# Altium schematic symbol library Schlib1.SchLib: 5 symbols
Pins are listed as number, name and electrical type; pins without a type are passive.

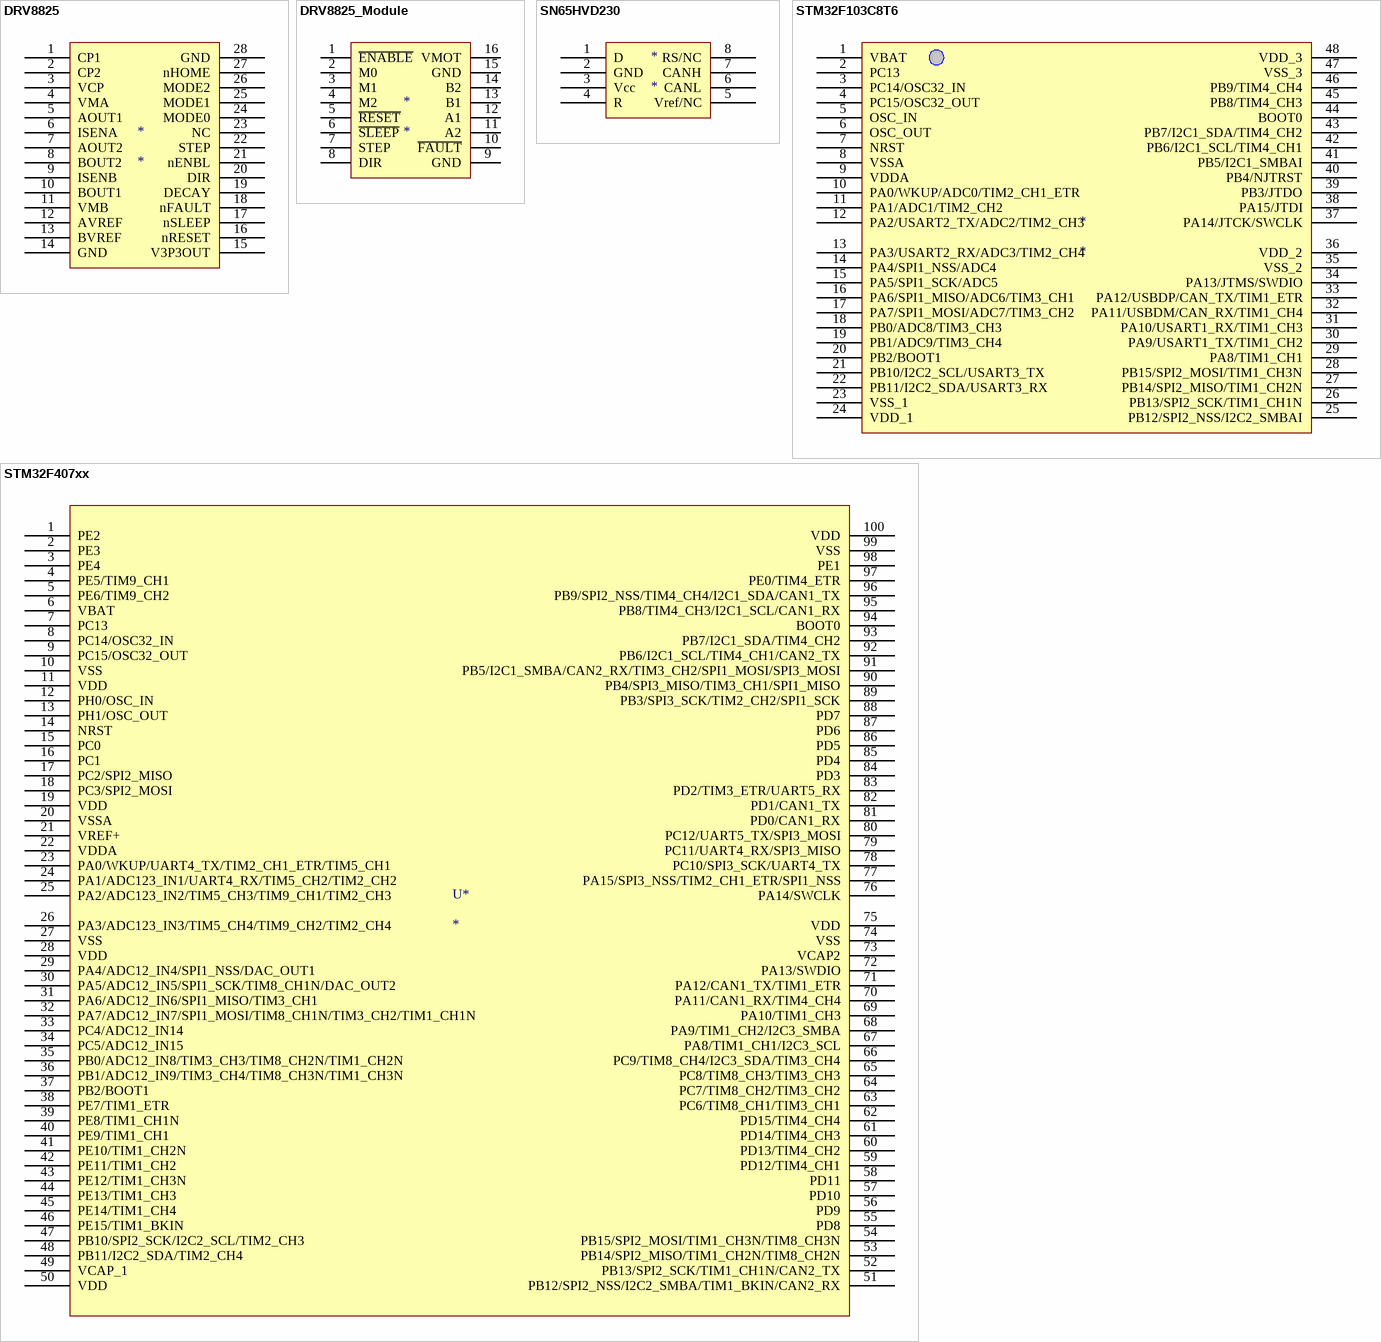
[diagram p0: symbols DRV8825 to STM32F407xx]

## DRV8825
designator *
pins: 1 CP1, 2 CP2, 3 VCP, 4 VMA, 5 AOUT1, 6 ISENA, 7 AOUT2, 8 BOUT2, 9 ISENB, 10 BOUT1, 11 VMB, 12 AVREF, 13 BVREF, 14 GND, 15 V3P3OUT, 16 nRESET, 17 nSLEEP, 18 nFAULT, 19 DECAY, 20 DIR, 21 nENBL, 22 STEP, 23 NC, 24 MODE0, 25 MODE1, 26 MODE2, 27 nHOME, 28 GND

## DRV8825_Module
designator *
pins: 1 ~{ENABLE}, 2 M0, 3 M1, 4 M2, 5 ~{RESET}, 6 ~{SLEEP}, 7 STEP, 8 DIR, 9 GND, 10 ~{FAULT}, 11 A2, 12 A1, 13 B1, 14 B2, 15 GND, 16 VMOT

## SN65HVD230
designator *
pins: 1 D, 2 GND, 3 Vcc, 4 R, 5 Vref/NC, 6 CANL, 7 CANH, 8 RS/NC

## STM32F103C8T6
designator *
pins: 1 VBAT, 2 PC13, 3 PC14/OSC32_IN, 4 PC15/OSC32_OUT, 5 OSC_IN, 6 OSC_OUT, 7 NRST, 8 VSSA, 9 VDDA, 10 PA0/WKUP/ADC0/TIM2_CH1_ETR, 11 PA1/ADC1/TIM2_CH2, 12 PA2/USART2_TX/ADC2/TIM2_CH3, 13 PA3/USART2_RX/ADC3/TIM2_CH4, 14 PA4/SPI1_NSS/ADC4, 15 PA5/SPI1_SCK/ADC5, 16 PA6/SPI1_MISO/ADC6/TIM3_CH1, 17 PA7/SPI1_MOSI/ADC7/TIM3_CH2, 18 PB0/ADC8/TIM3_CH3, 19 PB1/ADC9/TIM3_CH4, 20 PB2/BOOT1, 21 PB10/I2C2_SCL/USART3_TX, 22 PB11/I2C2_SDA/USART3_RX, 23 VSS_1, 24 VDD_1, 25 PB12/SPI2_NSS/I2C2_SMBAI, 26 PB13/SPI2_SCK/TIM1_CH1N, 27 PB14/SPI2_MISO/TIM1_CH2N, 28 PB15/SPI2_MOSI/TIM1_CH3N, 29 PA8/TIM1_CH1, 30 PA9/USART1_TX/TIM1_CH2, 31 PA10/USART1_RX/TIM1_CH3, 32 PA11/USBDM/CAN_RX/TIM1_CH4, 33 PA12/USBDP/CAN_TX/TIM1_ETR, 34 PA13/JTMS/SWDIO, 35 VSS_2, 36 VDD_2, 37 PA14/JTCK/SWCLK, 38 PA15/JTDI, 39 PB3/JTDO, 40 PB4/NJTRST, 41 PB5/I2C1_SMBAI, 42 PB6/I2C1_SCL/TIM4_CH1, 43 PB7/I2C1_SDA/TIM4_CH2, 44 BOOT0, 45 PB8/TIM4_CH3, 46 PB9/TIM4_CH4, 47 VSS_3, 48 VDD_3

## STM32F407xx
designator U*
pins: 1 PE2, 2 PE3, 3 PE4, 4 PE5/TIM9_CH1, 5 PE6/TIM9_CH2, 6 VBAT, 7 PC13, 8 PC14/OSC32_IN, 9 PC15/OSC32_OUT, 10 VSS, 11 VDD, 12 PH0/OSC_IN, 13 PH1/OSC_OUT, 14 NRST, 15 PC0, 16 PC1, 17 PC2/SPI2_MISO, 18 PC3/SPI2_MOSI, 19 VDD, 20 VSSA, 21 VREF+, 22 VDDA, 23 PA0/WKUP/UART4_TX/TIM2_CH1_ETR/TIM5_CH1, 24 PA1/ADC123_IN1/UART4_RX/TIM5_CH2/TIM2_CH2, 25 PA2/ADC123_IN2/TIM5_CH3/TIM9_CH1/TIM2_CH3, 26 PA3/ADC123_IN3/TIM5_CH4/TIM9_CH2/TIM2_CH4, 27 VSS, 28 VDD, 29 PA4/ADC12_IN4/SPI1_NSS/DAC_OUT1, 30 PA5/ADC12_IN5/SPI1_SCK/TIM8_CH1N/DAC_OUT2, 31 PA6/ADC12_IN6/SPI1_MISO/TIM3_CH1, 32 PA7/ADC12_IN7/SPI1_MOSI/TIM8_CH1N/TIM3_CH2/TIM1_CH1N, 33 PC4/ADC12_IN14, 34 PC5/ADC12_IN15, 35 PB0/ADC12_IN8/TIM3_CH3/TIM8_CH2N/TIM1_CH2N, 36 PB1/ADC12_IN9/TIM3_CH4/TIM8_CH3N/TIM1_CH3N, 37 PB2/BOOT1, 38 PE7/TIM1_ETR, 39 PE8/TIM1_CH1N, 40 PE9/TIM1_CH1, 41 PE10/TIM1_CH2N, 42 PE11/TIM1_CH2, 43 PE12/TIM1_CH3N, 44 PE13/TIM1_CH3, 45 PE14/TIM1_CH4, 46 PE15/TIM1_BKIN, 47 PB10/SPI2_SCK/I2C2_SCL/TIM2_CH3, 48 PB11/I2C2_SDA/TIM2_CH4, 49 VCAP_1, 50 VDD, 51 PB12/SPI2_NSS/I2C2_SMBA/TIM1_BKIN/CAN2_RX, 52 PB13/SPI2_SCK/TIM1_CH1N/CAN2_TX, 53 PB14/SPI2_MISO/TIM1_CH2N/TIM8_CH2N, 54 PB15/SPI2_MOSI/TIM1_CH3N/TIM8_CH3N, 55 PD8, 56 PD9, 57 PD10, 58 PD11, 59 PD12/TIM4_CH1, 60 PD13/TIM4_CH2, 61 PD14/TIM4_CH3, 62 PD15/TIM4_CH4, 63 PC6/TIM8_CH1/TIM3_CH1, 64 PC7/TIM8_CH2/TIM3_CH2, 65 PC8/TIM8_CH3/TIM3_CH3, 66 PC9/TIM8_CH4/I2C3_SDA/TIM3_CH4, 67 PA8/TIM1_CH1/I2C3_SCL, 68 PA9/TIM1_CH2/I2C3_SMBA, 69 PA10/TIM1_CH3, 70 PA11/CAN1_RX/TIM4_CH4, 71 PA12/CAN1_TX/TIM1_ETR, 72 PA13/SWDIO, 73 VCAP2, 74 VSS, 75 VDD, 76 PA14/SWCLK, 77 PA15/SPI3_NSS/TIM2_CH1_ETR/SPI1_NSS, 78 PC10/SPI3_SCK/UART4_TX, 79 PC11/UART4_RX/SPI3_MISO, 80 PC12/UART5_TX/SPI3_MOSI, 81 PD0/CAN1_RX, 82 PD1/CAN1_TX, 83 PD2/TIM3_ETR/UART5_RX, 84 PD3, 85 PD4, 86 PD5, 87 PD6, 88 PD7, 89 PB3/SPI3_SCK/TIM2_CH2/SPI1_SCK, 90 PB4/SPI3_MISO/TIM3_CH1/SPI1_MISO, 91 PB5/I2C1_SMBA/CAN2_RX/TIM3_CH2/SPI1_MOSI/SPI3_MOSI, 92 PB6/I2C1_SCL/TIM4_CH1/CAN2_TX, 93 PB7/I2C1_SDA/TIM4_CH2, 94 BOOT0, 95 PB8/TIM4_CH3/I2C1_SCL/CAN1_RX, 96 PB9/SPI2_NSS/TIM4_CH4/I2C1_SDA/CAN1_TX, 97 PE0/TIM4_ETR, 98 PE1, 99 VSS, 100 VDD